# Altium footprint library SOP127P600-8N_PushButtonRacon8.PcbLib: 1 footprints
Each footprint in its own frame and in the unit in brackets; x right, y up, seen from the top. Pads: shape width x height; smd on the part's side, far side on the other; paste and mask are expansions set on the pad; w line width, h text height; cw(c..) or ccw(c..) is an arc to the next point about the centre after c.
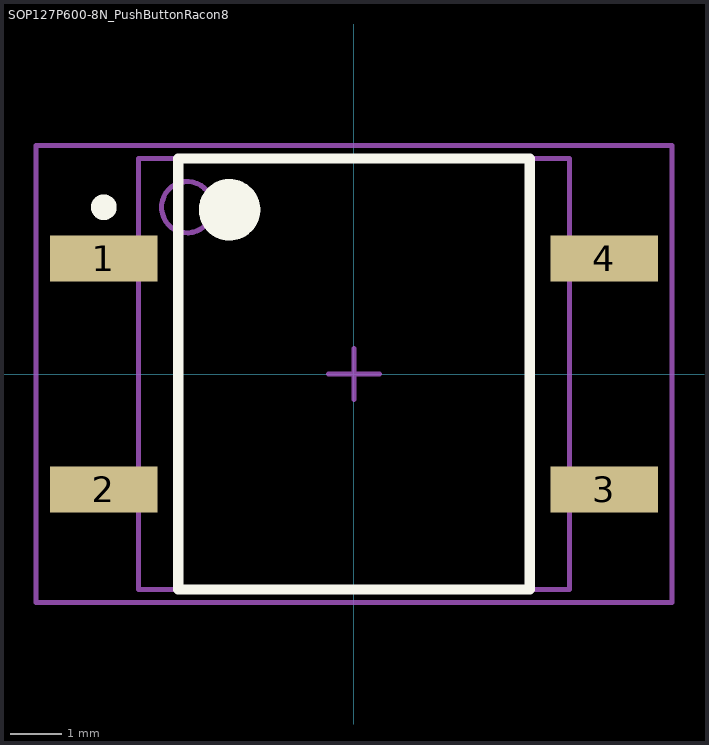
[diagram p0: the footprint, top view; thin cyan lines are the x and y axes]

## SOP127P600-8N_PushButtonRacon8 [mm] "SOP127P600-8N_PushButtonRacon8"
height 5.11
pads (4):
  rect 2.1x0.9 smd: 1(-4.875,2.25) 2(-4.875,-2.25) 3(4.875,-2.25) 4(4.875,2.25)
Top Overlay:
  circle w0.25: c-4.875,3.25 r0.125
  circle w0.6: c-2.425,3.2 r0.3
  lines w0.2: -3.425,-4.2 -3.425,4.2 3.425,4.2 3.425,-4.2 -3.425,-4.2
Mechanical 13:
  circle w0.1: c-3.25,3.25 r0.5
  lines w0.1: -4.2,-4.2 -4.2,4.2 4.2,4.2 4.2,-4.2 -4.2,-4.2
Mechanical 15:
  lines w0.1: -0.5,0 0.5,0 ; 0,-0.5 0,0.5 ; -6.2,-4.45 -6.2,4.45 6.2,4.45 6.2,-4.45 -6.2,-4.45
3D body: height 5.11, standoff 0.12, extent -4.2,-4.2 4.2,4.2